# Altium integrated library TI Data Converters Analog to Digital Converter.IntLib: 2198 symbols (part 163 of 164)
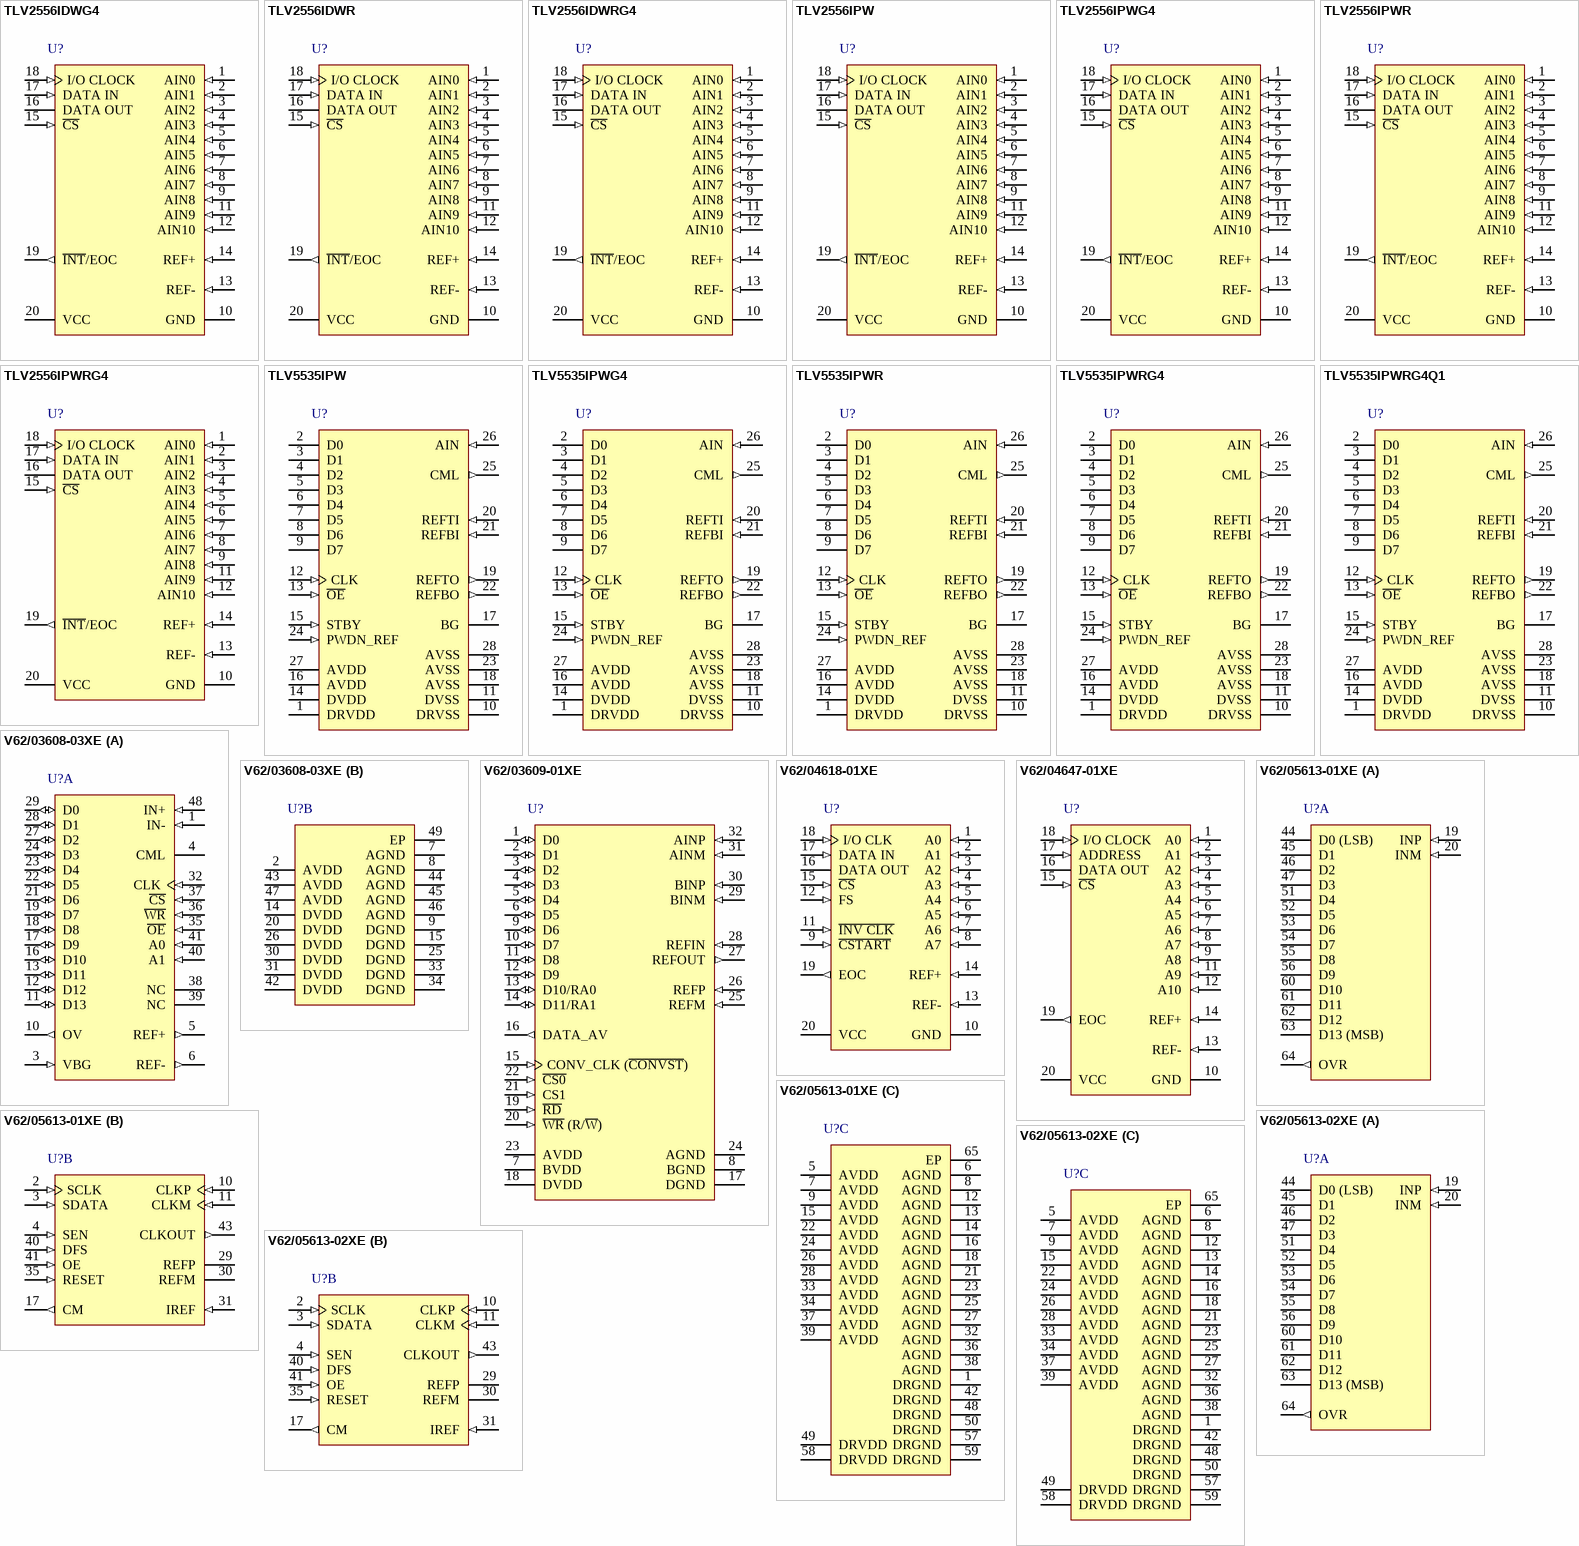
[diagram p288: symbols TLV2556IDWG4 to V62/05613-02XE]

## TLV5535IPWR
designator U?
8-Bit, 35 MSPS ADC Single Channel, Low Power, -40 to 85 degC, 28-pin SOP (PW28), Green (RoHS & no Sb/Br); Manufacturer: Texas Instruments; PartNumber: TLV5535IPWR; # Input Channels: 1; Analog Voltage AV/DD(Max)(V): 3.6; Analog Voltage AV/DD(Min)(V): 3; Architecture: Pipeline; ENOB(Bits): 7.4; INL(Max)(+/-LSB): 2.4; Interface: Parallel CMOS; Resolution(Bits): 8; Sample Rate (max)(SPS): 35M; SFDR(dB): 58; SINAD(dB): 46; SubFamily: High Speed ADC (>10MSPS); DatasheetVersion: SLAS221; PackageVersion: 4040064-7/G, 02/2011; PackageReference: PW28; PackageDescription: 28-Pin Plastic Small Outline, Body 9.7 x 4.4 mm, Pitch 0.65 mm; Supplier 1: Digi-Key; Supplier Part Number 1: 296-34813-2-ND; Digital Supply(Max)(V): 3.6; Digital Supply(Min)(V): 3; Eco-Plan: Green (RoHS & no Sb/Br); Mounting Technology: Surface Mount; Code_JEDEC: MO-153; ComponentLink1Description: Manufacturer URL; ComponentLink1URL: http://www.ti.com/; ComponentLink2Description: Datasheet; ComponentLink2URL: http://www.ti.com/general/docs/lit/getliterature.tsp?genericPartNumber=TLV5535&fileType=pdf; ComponentLink3Description: Package Specification; ComponentLink3URL: http://www.ti.com/litv/pdf/mpds364
footprint TI-PW28_N (SOP, 28-Leads, Body 9.7x4.4mm, Pitch 0.65mm, IPC Medium Density)
footprint TI-PW28_L (SOP, 28-Leads, Body 9.7x4.4mm, Pitch 0.65mm, IPC High Density)
footprint TI-PW28_M (SOP, 28-Leads, Body 9.7x4.4mm, Pitch 0.65mm, IPC Low Density)
pins: 1 DRVDD (power) "Supply voltage for digital output drivers", 2 D0 (hiz) "Data outputs.", 3 D1 (hiz) "Data outputs.", 4 D2 (hiz) "Data outputs.", 5 D3 (hiz) "Data outputs.", 6 D4 (hiz) "Data outputs.", 7 D5 (hiz) "Data outputs.", 8 D6 (hiz) "Data outputs.", 9 D7 (hiz) "Data outputs. D7 is the MSB.", 10 DRVSS (power) "Ground for digital output drivers", 11 DVSS (power) "Digital ground", 12 CLK (in) "Clock input. The input is sampled on each rising edge of CLK.", 13 ~{OE} (in) "Output enable. When high, the D0 - D7 outputs go in high-impedance mode.", 14 DVDD (power) "Digital supply voltage", 15 STBY (in) "Standby input. A high level on this input enables power-down mode.", 16 AVDD (power) "Analog supply voltage", 17 BG "Band gap reference voltage. A 1-uF capacitor (with an optional 0.1-uF capacitor in parallel) should be connected between this terminal and AVSS for external filtering.", 18 AVSS (power) "Analog ground", 19 REFTO (out) "Reference voltage top output. An internally generated reference is available at this terminal. It can be connected to REFTI or left unconnected. A 1-uF capacitor between REFTO and AVSS provides sufficient decoupling required (See Datasheet)", 20 REFTI (in) "Reference voltage top input. The voltage at this terminal defines the top reference voltage for the ADC.It can be connected to REFTO or to an externally generated reference level. Sufficient filtering should be applied to (See Datasheet)", 21 REFBI (in) "Reference voltage bottom input. The voltage at this terminal defines the bottom reference voltage for the ADC. It can be connected to REFBO or to an externally generated reference level. Sufficient filtering should be (See Datasheet)", 22 REFBO (out) "Reference voltage bottom output. An internally generated reference is available at this terminal. It can be connected to REFBI or left unconnected. A 1-uF capacitor between REFBO and AVSS provides sufficient decoupling (See Datasheet)", 23 AVSS (power) "Analog ground", 24 PWDN_REF (in) "Power down for internal reference voltages. A high on this terminal disables the internal reference circuit.", 25 CML (out) "Common mode level. This voltage is equal to (AVDD - AVSS) / 2. An external 0.1-uF capacitor should be connected between this terminal and AVSS.", 26 AIN (in) "Analog input", 27 AVDD (power) "Analog supply voltage", 28 AVSS (power) "Analog ground"

## TLV5535IPWRG4
designator U?
8-Bit, 35 MSPS ADC Single Channel, Low Power, -40 to 85 degC, 28-pin SOP (PW28), Green (RoHS & no Sb/Br); Manufacturer: Texas Instruments; PartNumber: TLV5535IPWRG4; # Input Channels: 1; Analog Voltage AV/DD(Max)(V): 3.6; Analog Voltage AV/DD(Min)(V): 3; Architecture: Pipeline; ENOB(Bits): 7.4; INL(Max)(+/-LSB): 2.4; Interface: Parallel CMOS; Resolution(Bits): 8; Sample Rate (max)(SPS): 35M; SFDR(dB): 58; SINAD(dB): 46; SubFamily: High Speed ADC (>10MSPS); DatasheetVersion: SLAS221; PackageVersion: 4040064-7/G, 02/2011; PackageReference: PW28; PackageDescription: 28-Pin Plastic Small Outline, Body 9.7 x 4.4 mm, Pitch 0.65 mm; Supplier 1: Digi-Key; Supplier Part Number 1: ADS131E04IPAG-ND; Digital Supply(Max)(V): 3.6; Digital Supply(Min)(V): 3; Eco-Plan: Green (RoHS & no Sb/Br); Mounting Technology: Surface Mount; Code_JEDEC: MO-153; ComponentLink1Description: Manufacturer URL; ComponentLink1URL: http://www.ti.com/; ComponentLink2Description: Datasheet; ComponentLink2URL: http://www.ti.com/general/docs/lit/getliterature.tsp?genericPartNumber=TLV5535&fileType=pdf; ComponentLink3Description: Package Specification; ComponentLink3URL: http://www.ti.com/litv/pdf/mpds364
footprint TI-PW28_N (SOP, 28-Leads, Body 9.7x4.4mm, Pitch 0.65mm, IPC Medium Density)
footprint TI-PW28_L (SOP, 28-Leads, Body 9.7x4.4mm, Pitch 0.65mm, IPC High Density)
footprint TI-PW28_M (SOP, 28-Leads, Body 9.7x4.4mm, Pitch 0.65mm, IPC Low Density)
pins: 1 DRVDD (power) "Supply voltage for digital output drivers", 2 D0 (hiz) "Data outputs.", 3 D1 (hiz) "Data outputs.", 4 D2 (hiz) "Data outputs.", 5 D3 (hiz) "Data outputs.", 6 D4 (hiz) "Data outputs.", 7 D5 (hiz) "Data outputs.", 8 D6 (hiz) "Data outputs.", 9 D7 (hiz) "Data outputs. D7 is the MSB.", 10 DRVSS (power) "Ground for digital output drivers", 11 DVSS (power) "Digital ground", 12 CLK (in) "Clock input. The input is sampled on each rising edge of CLK.", 13 ~{OE} (in) "Output enable. When high, the D0 - D7 outputs go in high-impedance mode.", 14 DVDD (power) "Digital supply voltage", 15 STBY (in) "Standby input. A high level on this input enables power-down mode.", 16 AVDD (power) "Analog supply voltage", 17 BG "Band gap reference voltage. A 1-uF capacitor (with an optional 0.1-uF capacitor in parallel) should be connected between this terminal and AVSS for external filtering.", 18 AVSS (power) "Analog ground", 19 REFTO (out) "Reference voltage top output. An internally generated reference is available at this terminal. It can be connected to REFTI or left unconnected. A 1-uF capacitor between REFTO and AVSS provides sufficient decoupling required (See Datasheet)", 20 REFTI (in) "Reference voltage top input. The voltage at this terminal defines the top reference voltage for the ADC.It can be connected to REFTO or to an externally generated reference level. Sufficient filtering should be applied to (See Datasheet)", 21 REFBI (in) "Reference voltage bottom input. The voltage at this terminal defines the bottom reference voltage for the ADC. It can be connected to REFBO or to an externally generated reference level. Sufficient filtering should be (See Datasheet)", 22 REFBO (out) "Reference voltage bottom output. An internally generated reference is available at this terminal. It can be connected to REFBI or left unconnected. A 1-uF capacitor between REFBO and AVSS provides sufficient decoupling (See Datasheet)", 23 AVSS (power) "Analog ground", 24 PWDN_REF (in) "Power down for internal reference voltages. A high on this terminal disables the internal reference circuit.", 25 CML (out) "Common mode level. This voltage is equal to (AVDD - AVSS) / 2. An external 0.1-uF capacitor should be connected between this terminal and AVSS.", 26 AIN (in) "Analog input", 27 AVDD (power) "Analog supply voltage", 28 AVSS (power) "Analog ground"

## TLV5535IPWRG4Q1
designator U?
Automotive Catalog 8-Bit, 35 MSPS Single Channel ADC, Low Power, -40 to 85 degC, 28-pin SOP (PW28), Green (RoHS & no Sb/Br); Manufacturer: Texas Instruments; PartNumber: TLV5535IPWRG4Q1; # Input Channels: 1; Analog Voltage AV/DD(Max)(V): 3.6; Analog Voltage AV/DD(Min)(V): 3; Architecture: Pipeline; ENOB(Bits): 7.4; INL(Max)(+/-LSB): 2.4; Resolution(Bits): 8; Sample Rate (max)(SPS): 35M; SFDR(dB): 58; SINAD(dB): 46; SubFamily: High Speed ADC (>10MSPS); DatasheetVersion: SGLS230A; PackageVersion: 4040064-7/G, 02/2011; PackageReference: PW28; PackageDescription: 28-Pin Plastic Small Outline, Body 9.7 x 4.4 mm, Pitch 0.65 mm; Supplier 1: Digi-Key; Supplier Part Number 1: ADC121S101QIMFX/NOPB-ND; Digital Supply(Max)(V): 3.6; Digital Supply(Min)(V): 3; Eco-Plan: Green (RoHS & no Sb/Br); Mounting Technology: Surface Mount; Code_JEDEC: MO-153; ComponentLink1Description: Manufacturer URL; ComponentLink1URL: http://www.ti.com/; ComponentLink2Description: Datasheet; ComponentLink2URL: http://www.ti.com/general/docs/lit/getliterature.tsp?genericPartNumber=TLV5535-Q1&fileType=pdf; ComponentLink3Description: Package Specification; ComponentLink3URL: http://www.ti.com/litv/pdf/mpds364
footprint TI-PW28_N (SOP, 28-Leads, Body 9.7x4.4mm, Pitch 0.65mm, IPC Medium Density)
footprint TI-PW28_L (SOP, 28-Leads, Body 9.7x4.4mm, Pitch 0.65mm, IPC High Density)
footprint TI-PW28_M (SOP, 28-Leads, Body 9.7x4.4mm, Pitch 0.65mm, IPC Low Density)
pins: 1 DRVDD (power) "Supply voltage for digital output drivers", 2 D0 (hiz) "Data outputs.", 3 D1 (hiz) "Data outputs.", 4 D2 (hiz) "Data outputs.", 5 D3 (hiz) "Data outputs.", 6 D4 (hiz) "Data outputs.", 7 D5 (hiz) "Data outputs.", 8 D6 (hiz) "Data outputs.", 9 D7 (hiz) "Data outputs. D7 is the MSB.", 10 DRVSS (power) "Ground for digital output drivers", 11 DVSS (power) "Digital ground", 12 CLK (in) "Clock input. The input is sampled on each rising edge of CLK.", 13 ~{OE} (in) "Output enable. When high, the D0 - D7 outputs go in high-impedance mode.", 14 DVDD (power) "Digital supply voltage", 15 STBY (in) "Standby input. A high level on this input enables power-down mode.", 16 AVDD (power) "Analog supply voltage", 17 BG "Band gap reference voltage. A 1-uF capacitor (with an optional 0.1-uF capacitor in parallel) should be connected between this terminal and AVSS for external filtering.", 18 AVSS (power) "Analog ground", 19 REFTO (out) "Reference voltage top output. An internally generated reference is available at this terminal. It can be connected to REFTI or left unconnected. A 1-uF capacitor between REFTO and AVSS provides sufficient decoupling required (See Datasheet)", 20 REFTI (in) "Reference voltage top input. The voltage at this terminal defines the top reference voltage for the ADC.It can be connected to REFTO or to an externally generated reference level. Sufficient filtering should be applied to (See Datasheet)", 21 REFBI (in) "Reference voltage bottom input. The voltage at this terminal defines the bottom reference voltage for the ADC. It can be connected to REFBO or to an externally generated reference level. Sufficient filtering should be (See Datasheet)", 22 REFBO (out) "Reference voltage bottom output. An internally generated reference is available at this terminal. It can be connected to REFBI or left unconnected. A 1-uF capacitor between REFBO and AVSS provides sufficient decoupling (See Datasheet)", 23 AVSS (power) "Analog ground", 24 PWDN_REF (in) "Power down for internal reference voltages. A high on this terminal disables the internal reference circuit.", 25 CML (out) "Common mode level. This voltage is equal to (AVDD - AVSS) / 2. An external 0.1-uF capacitor should be connected between this terminal and AVSS.", 26 AIN (in) "Analog input", 27 AVDD (power) "Analog supply voltage", 28 AVSS (power) "Analog ground"

## V62/03608-03XE
designator U?
Enhanced Product 14-Bit, 8 MSPS ADC Single Channel, Differential Input, DSP / uP Interface, Programmable Gain Amplifier, -55 to 125 degC, 48-pin QFP (PHP48), Green (RoHS & no Sb/Br); Manufacturer: Texas Instruments; PartNumber: V62/03608-03XE; # Input Channels: 1; Analog Voltage AV/DD(Max)(V): 3.6; Analog Voltage AV/DD(Min)(V): 3; Architecture: Pipeline; ENOB(Bits): 11.5; INL(Max)(+/-LSB): 10.5; Interface: Parallel CMOS; Resolution(Bits): 14; Sample Rate (max)(SPS): 8M; SFDR(dB): 80; SINAD(dB): 70; SNR(dB): 72; SubFamily: Precision ADC (<=10MSPS); DatasheetVersion: SGLS129B; PackageVersion: 4146927/B, 08/2003; PackageReference: PHP48-4385X4385TP; PackageDescription: 48-Pin PowerPAD(TM) Plastic Quad Flatpack, Body 7 x 7 mm, Pitch 0.5 mm; Supplier 1: Digi-Key; Supplier Part Number 1: 296-35612-2-ND; Digital Supply(Max)(V): 3.6; Digital Supply(Min)(V): 3; Eco-Plan: Green (RoHS & no Sb/Br); Mounting Technology: Surface Mount; Code_JEDEC: MS-026; ComponentLink1Description: Manufacturer URL; ComponentLink1URL: http://www.ti.com/; ComponentLink2Description: Datasheet; ComponentLink2URL: http://www.ti.com/general/docs/lit/getliterature.tsp?genericPartNumber=THS1408-EP&fileType=pdf; ComponentLink3Description: Package Specification; ComponentLink3URL: http://www.ti.com/litv/pdf/mpdi001b
footprint TI-PHP48-4385X4385TP_N (QFP, 48-Leads, Body 7x7mm, Pitch 0.5mm, Thermal Pad 4.9x4.9mm, IPC Medium Density)
footprint TI-PHP48-4385X4385TP_L (QFP, 48-Leads, Body 7x7mm, Pitch 0.5mm, Thermal Pad 4.9x4.9mm, IPC High Density)
footprint TI-PHP48-4385X4385TP_M (QFP, 48-Leads, Body 7x7mm, Pitch 0.5mm, Thermal Pad 4.9x4.9mm, IPC Low Density)
part A pins: 1 IN- (in) "Negative differential analog input", 3 VBG (in) "Reference input. This pin requires a 1-uF capacitor to AGND.", 4 CML "Reference midpoint. This pin requires a 0.1-uF capacitor to AGND.", 5 REF+ (out) "Positive reference output. This pin requires a 0.1-uF capacitor to AGND.", 6 REF- (out) "Negative reference output. This pin requires a 0.1-uF capacitor to AGND.", 10 OV (out) "Out of range output", 11 D13 (io) "Data inputs/outputs", 12 D12 (io) "Data inputs/outputs", 13 D11 (io) "Data inputs/outputs", 16 D10 (io) "Data inputs/outputs", 17 D9 (io) "Data inputs/outputs", 18 D8 (io) "Data inputs/outputs", 19 D7 (io) "Data inputs/outputs", 21 D6 (io) "Data inputs/outputs", 22 D5 (io) "Data inputs/outputs", 23 D4 (io) "Data inputs/outputs", 24 D3 (io) "Data inputs/outputs", 27 D2 (io) "Data inputs/outputs", 28 D1 (io) "Data inputs/outputs", 29 D0 (io) "Data inputs/outputs", 32 CLK (in) "Clock input", 35 ~{OE} (in) "Output enable. Active low", 36 ~{WR} (in) "Write signal. Active low", 37 ~{CS} (in) "Chip select input. Active low", 38 NC "No connection; do not use. Reserved.", 39 NC "No connection; do not use. Reserved.", 40 A1 (in) "Address input", 41 A0 (in) "Address input", 48 IN+ (in) "Positive differential analog input"
part B pins: 2 AVDD (power) "Analog power supply", 7 AGND (power) "Analog ground", 8 AGND (power) "Analog ground", 9 DGND (power) "Digital ground", 14 DVDD (power) "Digital power supply", 15 DGND (power) "Digital ground", 20 DVDD (power) "Digital power supply", 25 DGND (power) "Digital ground", 26 DVDD (power) "Digital power supply", 30 DVDD (power) "Digital power supply", 31 DVDD (power) "Digital power supply", 33 DGND (power) "Digital ground", 34 DGND (power) "Digital ground", 42 DVDD (power) "Digital power supply", 43 AVDD (power) "Analog power supply", 44 AGND (power) "Analog ground", 45 AGND (power) "Analog ground", 46 AGND (power) "Analog ground", 47 AVDD (power) "Analog power supply", 49 EP

## V62/03609-01XE
designator U?
Enhanced Product 12-Bit, 6 MSPS ADC Quad Channel, DSP / uP Interface, 16 x FIFO, -55 to 125 degC, 32-pin SOP (DA32), Green (RoHS & no Sb/Br); Manufacturer: Texas Instruments; PartNumber: V62/03609-01XE; # Input Channels: 4; Analog Voltage AV/DD(Max)(V): 5.25; Analog Voltage AV/DD(Min)(V): 4.75; Architecture: Pipeline; Digital Supply(Min)(V): 3; ENOB(Bits): 11; INL(Max)(+/-LSB): 1.8; Interface: Parallel CMOS; Resolution(Bits): 12; Sample Rate (max)(SPS): 6M; SFDR(dB): 71; SINAD(dB): 65; SNR(dB): 69; SubFamily: Precision ADC (<=10MSPS); DatasheetVersion: SGLS126A; PackageVersion: 4040066/F, 01/2009; PackageReference: DA32; PackageDescription: 32-Pin Plastic Small Outline, Body 11 x 6.1 mm, Pitch 0.65 mm; Supplier 1: Digi-Key; Supplier Part Number 1: ADC10040QCIMT/NOPB-ND; Digital Supply(Max)(V): 5.25; Eco-Plan: Green (RoHS & no Sb/Br); Mounting Technology: Surface Mount; Code_JEDEC: MO-225; ComponentLink1Description: Manufacturer URL; ComponentLink1URL: http://www.ti.com/; ComponentLink2Description: Datasheet; ComponentLink2URL: http://www.ti.com/general/docs/lit/getliterature.tsp?genericPartNumber=THS1206-EP&fileType=pdf; ComponentLink3Description: Package Specification; ComponentLink3URL: http://www.ti.com/lit/ml/mtss002e/mtss002e.pdf
footprint TI-DA32_N (SOP, 32-Leads, Body 11x6.1mm, Pitch 0.65mm, IPC Medium Density)
footprint TI-DA32_L (SOP, 32-Leads, Body 11x6.1mm, Pitch 0.65mm, IPC High Density)
footprint TI-DA32_M (SOP, 32-Leads, Body 11x6.1mm, Pitch 0.65mm, IPC Low Density)
pins: 1 D0 (io) "Digital input, output; D0 = LSB", 2 D1 (io) "Digital input, output; D0 = LSB", 3 D2 (io) "Digital input, output; D0 = LSB", 4 D3 (io) "Digital input, output; D0 = LSB", 5 D4 (io) "Digital input, output; D0 = LSB", 6 D5 (io) "Digital input, output; D0 = LSB", 7 BVDD (power) "Digital supply voltage for buffer", 8 BGND (power) "Digital ground for buffer", 9 D6 (io) "Digital input, output; D0 = LSB", 10 D7 (io) "Digital input, output; D0 = LSB", 11 D8 (io) "Digital input, output; D0 = LSB", 12 D9 (io) "Digital input, output; D0 = LSB", 13 D10/RA0 (io) "Digital input, output. The data line D10 is also used as an address line (RA0) for the control register. This is required for writing to control register 0 and control register 1. See Table 8.", 14 D11/RA1 (io) "Digital input, output (D11 = MSB). The data line D11 is also used as an address line (RA1) for the control register. This is required for writing to control register 0 and control register 1. See Table 8.", 15 CONV_CLK (~{CONVST}) (in) "Digital input. This input is used to apply an external conversion clock in the continuous conversion mode. In the single conversion mode, this input functions as the conversion start (C\O\N\V\S\T\) input. A high to low (See Datasheet)", 16 DATA_AV (out) "Data available signal, which can be used to generate an interrupt for processors and as a level information of the internal FIFO. This signal can be configured to be active low or high and can be configured as a static level (See Datasheet)", 17 DGND (power) "Digital ground. Ground reference for digital circuitry.", 18 DVDD (power) "Digital supply voltage", 19 ~{RD} (in) "The R\D\ input is used only if the W\R\ input is configured as a write only input. In this case, it is a digital input, active low as a data read select from the processor. See timing section.", 20 ~{WR} (R/~{W}) (in) "This input is programmable. It functions as a read-write input (R/W\) and can also be configured as a write-only input (W\R\), which is active low and used as data write select from the processor. In this case, the R\D\ (See Datasheet)", 21 CS1 (in) "Chip select input (active high)", 22 ~{CS0} (in) "Chip select input (active low)", 23 AVDD (power) "Analog supply voltage", 24 AGND (power) "Analog ground", 25 REFM (in) "Reference input, requires a bypass capacitor of 10 uF to AGND in order to bypass the internal reference voltage. An external reference voltage at this input can be applied. This option can be programmed through control (See Datasheet)", 26 REFP (in) "Reference input, requires a bypass capacitor of 10 uF to AGND in order to bypass the internal reference voltage. An external reference voltage at this input can be applied. This option can be programmed through control (See Datasheet)", 27 REFOUT (out) "Analog fixed reference output voltage of 2.5 V. Sink and source capability of 250 uA. The reference output requires a capacitor of 10 uF to AGND for filtering and stability.", 28 REFIN (in) "Common-mode reference input for the analog input channels. It is recommended that this pin be connected to the reference output REFOUT.", 29 BINM (in) "Analog input, single-ended or negative input of differential channel B", 30 BINP (in) "Analog input, single-ended or positive input of differential channel B", 31 AINM (in) "Analog input, single-ended or negative input of differential channel A", 32 AINP (in) "Analog input, single-ended or positive input of differential channel A"

## V62/04618-01XE
designator U?
Enhanced Product Low-Voltage 10-Bit ADC with Serial Control & 8 Analog Input, -40 to 125 degC, 20-pin SOP (DB20), Green (RoHS & no Sb/Br); Manufacturer: Texas Instruments; PartNumber: V62/04618-01XE; # Input Channels: 8; Analog Voltage AV/DD(Max)(V): 5.5; Analog Voltage AV/DD(Min)(V): 2.7; Architecture: SAR; INL(Max)(+/-LSB): 1; Interface: Serial SPI; Resolution(Bits): 10; Sample Rate (max)(SPS): 85k; SubFamily: Precision ADC (<=10MSPS); DatasheetVersion: SGLS171A; PackageVersion: 4040065/E, 12/2001; PackageReference: DB20; PackageDescription: 20-Pin Plastic Small Outline, Body 5.3 x 7.2 mm, Pitch 0.65 mm; Supplier 1: Digi-Key; Supplier Part Number 1: ADS1018IDGSR-ND; Digital Supply(Max)(V): 5.5; Digital Supply(Min)(V): 2.7; Eco-Plan: Green (RoHS & no Sb/Br); Mounting Technology: Surface Mount; Code_JEDEC: MO-150; ComponentLink1Description: Manufacturer URL; ComponentLink1URL: http://www.ti.com/; ComponentLink2Description: Datasheet; ComponentLink2URL: http://www.ti.com/general/docs/lit/getliterature.tsp?genericPartNumber=TLV1548-EP&fileType=pdf; ComponentLink3Description: Package Specification; ComponentLink3URL: http://www.ti.com/lit/ml/msso002e/msso002e.pdf
footprint TI-DB20_N (SOP, 20-Leads, Body 7.2x5.3mm, Pitch 0.65mm, IPC Medium Density)
footprint TI-DB20_L (SOP, 20-Leads, Body 7.2x5.3mm, Pitch 0.65mm, IPC High Density)
footprint TI-DB20_M (SOP, 20-Leads, Body 7.2x5.3mm, Pitch 0.65mm, IPC Low Density)
pins: 1 A0 (in) "Analog inputs. The analog inputs are internally multiplexed. (For a source impedance greater than 1k ohm, the asynchronous start should be used to increase the sampling time.)", 2 A1 (in) "Analog inputs. The analog inputs are internally multiplexed. (For a source impedance greater than 1k ohm, the asynchronous start should be used to increase the sampling time.)", 3 A2 (in) "Analog inputs. The analog inputs are internally multiplexed. (For a source impedance greater than 1k ohm, the asynchronous start should be used to increase the sampling time.)", 4 A3 (in) "Analog inputs. The analog inputs are internally multiplexed. (For a source impedance greater than 1k ohm, the asynchronous start should be used to increase the sampling time.)", 5 A4 (in) "Analog inputs. The analog inputs are internally multiplexed. (For a source impedance greater than 1k ohm, the asynchronous start should be used to increase the sampling time.)", 6 A5 (in) "Analog inputs. The analog inputs are internally multiplexed. (For a source impedance greater than 1k ohm, the asynchronous start should be used to increase the sampling time.)", 7 A6 (in) "Analog inputs. The analog inputs are internally multiplexed. (For a source impedance greater than 1k ohm, the asynchronous start should be used to increase the sampling time.)", 8 A7 (in) "Analog inputs. The analog inputs are internally multiplexed. (For a source impedance greater than 1k ohm, the asynchronous start should be used to increase the sampling time.)", 9 ~{CSTART} (in) "Sampling/conversion start control. C\S\T\A\R\T\ controls the start of the sampling of an analog input from a selected multiplex channel. A high-to-low transition starts the sampling of the analog input signal. A low-to-high (See Datasheet)", 10 GND (power) "Ground return for internal circuitry. All voltage measurements are with respect to GND, unless otherwise noted.", 11 ~{INV CLK} (in) "Inverted clock input. I\N\V\ \C\L\K\ is tied to GND when an inverted I/O CLK is used as the source of the input clock. This affects both microprocessor and DSP interfaces. I\N\V\ \C\L\K\ is tied to VCC if I/O CLK is not (See Datasheet)", 12 FS (in) "DSP frame synchronization input. FS indicates the start of a serial data frame into or out of the device. FS is tied to VCC when interfacing the device with a microprocessor.", 13 REF- (in) "Lower reference voltage (nominally ground)", 14 REF+ (in) "Upper reference voltage (nominally VCC ). The maximum input voltage range is determined by the difference between the voltages applied to REF+ and REF-.", 15 ~{CS} (in) "Chip select. A high-to-low transition on C\S\ resets the internal counters and controls and enables DATA IN, DATA OUT, and I/O CLK within the maximum setup time. A low-to-high transition disables DATA IN, DATA OUT, and I/O (See Datasheet)", 16 DATA OUT (hiz) "Three-state serial output of the A/D conversion result. DATA OUT is in the high-impedance state when C\S\ is high and active when C\S\ is low or after FS? (in DSP mode). With a valid C\S\ signal, DATA OUT is removed fro(See Datasheet)", 17 DATA IN (in) "Serial data input. The 4-bit serial data selects the desired analog input and test voltage to be converted next in a normal cycle. These bits can also set the conversion rate and enable the power-down mode. When operating in (See Datasheet)", 18 I/O CLK (in) "Input/output clock. I/O CLK receives the serial I/O clock input in the two modes and performs the following four functions in each mode", 19 EOC (out) "End of conversion. EOC goes from a high to a low logic level on the tenth rising (microprocessor mode) or tenth falling (DSP mode) edge of I/O CLK and remains low until the conversion is complete and data is ready for (See Datasheet)", 20 VCC (power) "Positive supply voltage"

## V62/04647-01XE
designator U?
Enhanced Product 10-Bit ADC with Serial Control & 11 Analog Inputs, -40 to 125 degC, 20-pin SOIC (DW20), Green (RoHS & no Sb/Br); Manufacturer: Texas Instruments; PartNumber: V62/04647-01XE; # Input Channels: 11; Analog Voltage AV/DD(Max)(V): 5.5; Analog Voltage AV/DD(Min)(V): 4.5; Architecture: SAR; INL(Max)(+/-LSB): 1; Interface: Serial SPI; Resolution(Bits): 10; Sample Rate (max)(SPS): 38k; SubFamily: Precision ADC (<=10MSPS); DatasheetVersion: SGLS152A; PackageVersion: 4040000-4/G, 01/2011; PackageReference: DW20; PackageDescription: 20-Pin Plastic Small Outline, Body 12.8 x 7.5 mm, Pitch 1.27 mm; Supplier 1: Digi-Key; Supplier Part Number 1: 296-34883-2-ND; Digital Supply(Max)(V): 5.5; Digital Supply(Min)(V): 4.5; Eco-Plan: Green (RoHS & no Sb/Br); Mounting Technology: Surface Mount; Code_JEDEC: MO-013; ComponentLink1Description: Manufacturer URL; ComponentLink1URL: http://www.ti.com/; ComponentLink2Description: Datasheet; ComponentLink2URL: http://www.ti.com/general/docs/lit/getliterature.tsp?genericPartNumber=TLC1543-EP&fileType=pdf; ComponentLink3Description: Package Specification; ComponentLink3URL: http://www.ti.com/lit/ml/mpds173a/mpds173a.pdf
footprint TI-DW20_N (SOIC, 20-Leads, Body 12.8x7.5mm, Pitch 1.27mm, IPC Medium Density)
footprint TI-DW20_L (SOIC, 20-Leads, Body 12.8x7.5mm, Pitch 1.27mm, IPC High Density)
footprint TI-DW20_M (SOIC, 20-Leads, Body 12.8x7.5mm, Pitch 1.27mm, IPC Low Density)
pins: 1 A0 (in) "Analog signal inputs. The 11 analog inputs are applied to these terminals and are internally multiplexed. The driving source impedance should be less than or equal to 1 kohm.", 2 A1 (in) "Analog signal inputs. The 11 analog inputs are applied to these terminals and are internally multiplexed. The driving source impedance should be less than or equal to 1 kohm.", 3 A2 (in) "Analog signal inputs. The 11 analog inputs are applied to these terminals and are internally multiplexed. The driving source impedance should be less than or equal to 1 kohm.", 4 A3 (in) "Analog signal inputs. The 11 analog inputs are applied to these terminals and are internally multiplexed. The driving source impedance should be less than or equal to 1 kohm.", 5 A4 (in) "Analog signal inputs. The 11 analog inputs are applied to these terminals and are internally multiplexed. The driving source impedance should be less than or equal to 1 kohm.", 6 A5 (in) "Analog signal inputs. The 11 analog inputs are applied to these terminals and are internally multiplexed. The driving source impedance should be less than or equal to 1 kohm.", 7 A6 (in) "Analog signal inputs. The 11 analog inputs are applied to these terminals and are internally multiplexed. The driving source impedance should be less than or equal to 1 kohm.", 8 A7 (in) "Analog signal inputs. The 11 analog inputs are applied to these terminals and are internally multiplexed. The driving source impedance should be less than or equal to 1 kohm.", 9 A8 (in) "Analog signal inputs. The 11 analog inputs are applied to these terminals and are internally multiplexed. The driving source impedance should be less than or equal to 1 kohm.", 10 GND (power) "The ground return terminal for the internal circuitry. Unless otherwise noted, all voltage measurements are with respect to this terminal.", 11 A9 (in) "Analog signal inputs. The 11 analog inputs are applied to these terminals and are internally multiplexed. The driving source impedance should be less than or equal to 1 kohm.", 12 A10 (in) "Analog signal inputs. The 11 analog inputs are applied to these terminals and are internally multiplexed. The driving source impedance should be less than or equal to 1 kohm.", 13 REF- (in) "The lower reference voltage value (nominally ground) is applied to this terminal.", 14 REF+ (in) "The upper reference voltage value (nominally VCC) is applied to this terminal. The maximum input voltage range is determined by the difference between the voltage applied to this terminal and the voltage applied to the REF- (See Datasheet)", 15 ~{CS} (in) "Chip select. A high-to-low transition on this input resets the internal counters and controls and enables DATA OUT, ADDRESS, and I/O CLOCK within a maximum of a setup time plus two falling edges of the internal system clock. (See Datasheet)", 16 DATA OUT (hiz) "The 3-state serial output for the A/D conversion result. This output is in the high-impedance state when C\S\ is high and active when C\S\ is low. With a valid chip select, DATA OUT is removed from the high-impedance state (See Datasheet)", 17 ADDRESS (in) "Serial address input. A 4-bit serial address selects the desired analog input or test voltage that is to be converted next. The address data is presented with the MSB first and shifts in on the first four rising edges of I/O (See Datasheet)", 18 I/O CLOCK (in) "Input/output clock. This terminal receives the serial I/O CLOCK input and performs the following four functions: 1) It clocks the four input address bits into the address register on the first four rising edges of the I/O (See Datasheet)", 19 EOC (out) "End of conversion. This output goes from a high to a low logic level on the trailing edge of the tenth I/O CLOCK and remains low until the conversion is complete and data are ready for transfer.", 20 VCC (power) "Positive supply voltage"

## V62/05613-01XE
designator U?
Enhanced Product 14-Bit 125 MSPS ADC, -55 to 125 degC, 64-pin QFP (PAP64), Green (RoHS & no Sb/Br); Manufacturer: Texas Instruments; PartNumber: V62/05613-01XE; # Input Channels: 1; Analog Voltage AV/DD(Max)(V): 3.6; Analog Voltage AV/DD(Min)(V): 3; Architecture: Pipeline; ENOB(Bits): 11.3; INL(Max)(+/-LSB): 8; Interface: Parallel CMOS,Serial SPI Interface; Resolution(Bits): 14; Sample Rate (max)(SPS): 125M; SFDR(dB): 84; SINAD(dB): 70; SNR(dB): 71.5; SubFamily: High Speed ADC (>10MSPS); DatasheetVersion: SGLS286C; PackageVersion: 4147702/C, 08/2003; PackageReference: PAP64-4130X4130TP; PackageDescription: 64-Pin PowerPAD(TM) Plastic Quad Flatpack, Body 10 x 10 mm, Pitch 0.5 mm; Supplier 1: Mouser; Supplier Part Number 1: 926-ADC12081CIVT; Digital Supply(Max)(V): 3.6; Digital Supply(Min)(V): 3; Eco-Plan: Green (RoHS & no Sb/Br); Mounting Technology: Surface Mount; Code_JEDEC: MS-026; ComponentLink1Description: Manufacturer URL; ComponentLink1URL: http://www.ti.com/; ComponentLink2Description: Datasheet; ComponentLink2URL: http://www.ti.com/general/docs/lit/getliterature.tsp?genericPartNumber=ADS5500-EP&fileType=pdf; ComponentLink3Description: Package Specification; ComponentLink3URL: http://www.ti.com/lit/ml/mpqf071b/mpqf071b.pdf
footprint TI-PAP64-4130X4130TP_N (QFP, 64-Leads, Body 10x10mm, Pitch 0.5mm, Thermal Pad 4.15x4.15mm, IPC Medium Density)
footprint TI-PAP64-4130X4130TP_L (QFP, 64-Leads, Body 10x10mm, Pitch 0.5mm, Thermal Pad 4.15x4.15mm, IPC High Density)
footprint TI-PAP64-4130X4130TP_M (QFP, 64-Leads, Body 10x10mm, Pitch 0.5mm, Thermal Pad 4.15x4.15mm, IPC Low Density)
part A pins: 19 INP (in) "Differential analog input (positive)", 20 INM (in) "Differential analog input (negative)", 44 D0 (LSB) (hiz) "Parallel data output", 45 D1 (hiz) "Parallel data output", 46 D2 (hiz) "Parallel data output", 47 D3 (hiz) "Parallel data output", 51 D4 (hiz) "Parallel data output", 52 D5 (hiz) "Parallel data output", 53 D6 (hiz) "Parallel data output", 54 D7 (hiz) "Parallel data output", 55 D8 (hiz) "Parallel data output", 56 D9 (hiz) "Parallel data output", 60 D10 (hiz) "Parallel data output", 61 D11 (hiz) "Parallel data output", 62 D12 (hiz) "Parallel data output", 63 D13 (MSB) (hiz) "Parallel data output", 64 OVR (out) "Over-range indicator bit"
part B pins: 2 SCLK (in) "Serial interface clock", 3 SDATA (in) "Serial interface data", 4 SEN (in) "Serial interface chip select", 10 CLKP (in) "Data converter differential input clock (positive)", 11 CLKM (in) "Data converter differential input clock (negative)", 17 CM (out) "Common-mode output voltage", 29 REFP "Reference voltage (positive); 1-uF capacitor in series with a 1-ohm resistor to GND", 30 REFM "Reference voltage (negative); 1-uF capacitor in series with a 1-ohm resistor to GND", 31 IREF (in) "Current set; 56-kohm resistor to GND; do not connect capacitors", 35 RESET (in) "Reset (active high), 200-kohm resistor to AVDD", 40 DFS (in) "Data format and clock out polarity select", 41 OE (in) "Output enable (active high)", 43 CLKOUT (out) "CMOS clock out in sync with data"
part C pins: 1 DRGND (power) "Output driver ground", 5 AVDD (power) "Analog power supply", 6 AGND (power) "Analog ground", 7 AVDD (power) "Analog power supply", 8 AGND (power) "Analog ground", 9 AVDD (power) "Analog power supply", 12 AGND (power) "Analog ground", 13 AGND (power) "Analog ground", 14 AGND (power) "Analog ground", 15 AVDD (power) "Analog power supply", 16 AGND (power) "Analog ground", 18 AGND (power) "Analog ground", 21 AGND (power) "Analog ground", 22 AVDD (power) "Analog power supply", 23 AGND (power) "Analog ground", 24 AVDD (power) "Analog power supply", 25 AGND (power) "Analog ground", 26 AVDD (power) "Analog power supply", 27 AGND (power) "Analog ground", 28 AVDD (power) "Analog power supply", 32 AGND (power) "Analog ground", 33 AVDD (power) "Analog power supply", 34 AVDD (power) "Analog power supply", 36 AGND (power) "Analog ground", 37 AVDD (power) "Analog power supply", 38 AGND (power) "Analog ground", 39 AVDD (power) "Analog power supply", 42 DRGND (power) "Output driver ground", 48 DRGND (power) "Output driver ground", 49 DRVDD (power) "Output driver power supply", 50 DRGND (power) "Output driver ground", 57 DRGND (power) "Output driver ground", 58 DRVDD (power) "Output driver power supply", 59 DRGND (power) "Output driver ground", 65 EP (power) "Connected to Analog Ground"

## V62/05613-02XE
designator U?
Enhanced Product 14-Bit 125 MSPS ADC, -55 to 125 degC, 64-pin QFP (PAP64), Green (RoHS & no Sb/Br); Manufacturer: Texas Instruments; PartNumber: V62/05613-02XE; # Input Channels: 1; Analog Voltage AV/DD(Max)(V): 3.6; Analog Voltage AV/DD(Min)(V): 3; Architecture: Pipeline; ENOB(Bits): 11.3; INL(Max)(+/-LSB): 8; Interface: Parallel CMOS,Serial SPI Interface; Resolution(Bits): 14; Sample Rate (max)(SPS): 125M; SFDR(dB): 84; SINAD(dB): 70; SNR(dB): 71.5; SubFamily: High Speed ADC (>10MSPS); DatasheetVersion: SGLS286C; PackageVersion: 4147702/C, 08/2003; PackageReference: PAP64-4130X4130TP; PackageDescription: 64-Pin PowerPAD(TM) Plastic Quad Flatpack, Body 10 x 10 mm, Pitch 0.5 mm; Digital Supply(Max)(V): 3.6; Digital Supply(Min)(V): 3; Eco-Plan: Green (RoHS & no Sb/Br); Mounting Technology: Surface Mount; Code_JEDEC: MS-026; ComponentLink1Description: Manufacturer URL; ComponentLink1URL: http://www.ti.com/; ComponentLink2Description: Datasheet; ComponentLink2URL: http://www.ti.com/general/docs/lit/getliterature.tsp?genericPartNumber=ADS5500-EP&fileType=pdf; ComponentLink3Description: Package Specification; ComponentLink3URL: http://www.ti.com/lit/ml/mpqf071b/mpqf071b.pdf
footprint TI-PAP64-4130X4130TP_N (QFP, 64-Leads, Body 10x10mm, Pitch 0.5mm, Thermal Pad 4.15x4.15mm, IPC Medium Density)
footprint TI-PAP64-4130X4130TP_L (QFP, 64-Leads, Body 10x10mm, Pitch 0.5mm, Thermal Pad 4.15x4.15mm, IPC High Density)
footprint TI-PAP64-4130X4130TP_M (QFP, 64-Leads, Body 10x10mm, Pitch 0.5mm, Thermal Pad 4.15x4.15mm, IPC Low Density)
part A pins: 19 INP (in) "Differential analog input (positive)", 20 INM (in) "Differential analog input (negative)", 44 D0 (LSB) (hiz) "Parallel data output", 45 D1 (hiz) "Parallel data output", 46 D2 (hiz) "Parallel data output", 47 D3 (hiz) "Parallel data output", 51 D4 (hiz) "Parallel data output", 52 D5 (hiz) "Parallel data output", 53 D6 (hiz) "Parallel data output", 54 D7 (hiz) "Parallel data output", 55 D8 (hiz) "Parallel data output", 56 D9 (hiz) "Parallel data output", 60 D10 (hiz) "Parallel data output", 61 D11 (hiz) "Parallel data output", 62 D12 (hiz) "Parallel data output", 63 D13 (MSB) (hiz) "Parallel data output", 64 OVR (out) "Over-range indicator bit"
part B pins: 2 SCLK (in) "Serial interface clock", 3 SDATA (in) "Serial interface data", 4 SEN (in) "Serial interface chip select", 10 CLKP (in) "Data converter differential input clock (positive)", 11 CLKM (in) "Data converter differential input clock (negative)", 17 CM (out) "Common-mode output voltage", 29 REFP "Reference voltage (positive); 1-uF capacitor in series with a 1-ohm resistor to GND", 30 REFM "Reference voltage (negative); 1-uF capacitor in series with a 1-ohm resistor to GND", 31 IREF (in) "Current set; 56-kohm resistor to GND; do not connect capacitors", 35 RESET (in) "Reset (active high), 200-kohm resistor to AVDD", 40 DFS (in) "Data format and clock out polarity select", 41 OE (in) "Output enable (active high)", 43 CLKOUT (out) "CMOS clock out in sync with data"
part C pins: 1 DRGND (power) "Output driver ground", 5 AVDD (power) "Analog power supply", 6 AGND (power) "Analog ground", 7 AVDD (power) "Analog power supply", 8 AGND (power) "Analog ground", 9 AVDD (power) "Analog power supply", 12 AGND (power) "Analog ground", 13 AGND (power) "Analog ground", 14 AGND (power) "Analog ground", 15 AVDD (power) "Analog power supply", 16 AGND (power) "Analog ground", 18 AGND (power) "Analog ground", 21 AGND (power) "Analog ground", 22 AVDD (power) "Analog power supply", 23 AGND (power) "Analog ground", 24 AVDD (power) "Analog power supply", 25 AGND (power) "Analog ground", 26 AVDD (power) "Analog power supply", 27 AGND (power) "Analog ground", 28 AVDD (power) "Analog power supply", 32 AGND (power) "Analog ground", 33 AVDD (power) "Analog power supply", 34 AVDD (power) "Analog power supply", 36 AGND (power) "Analog ground", 37 AVDD (power) "Analog power supply", 38 AGND (power) "Analog ground", 39 AVDD (power) "Analog power supply", 42 DRGND (power) "Output driver ground", 48 DRGND (power) "Output driver ground", 49 DRVDD (power) "Output driver power supply", 50 DRGND (power) "Output driver ground", 57 DRGND (power) "Output driver ground", 58 DRVDD (power) "Output driver power supply", 59 DRGND (power) "Output driver ground", 65 EP (power) "Connected to Analog Ground"

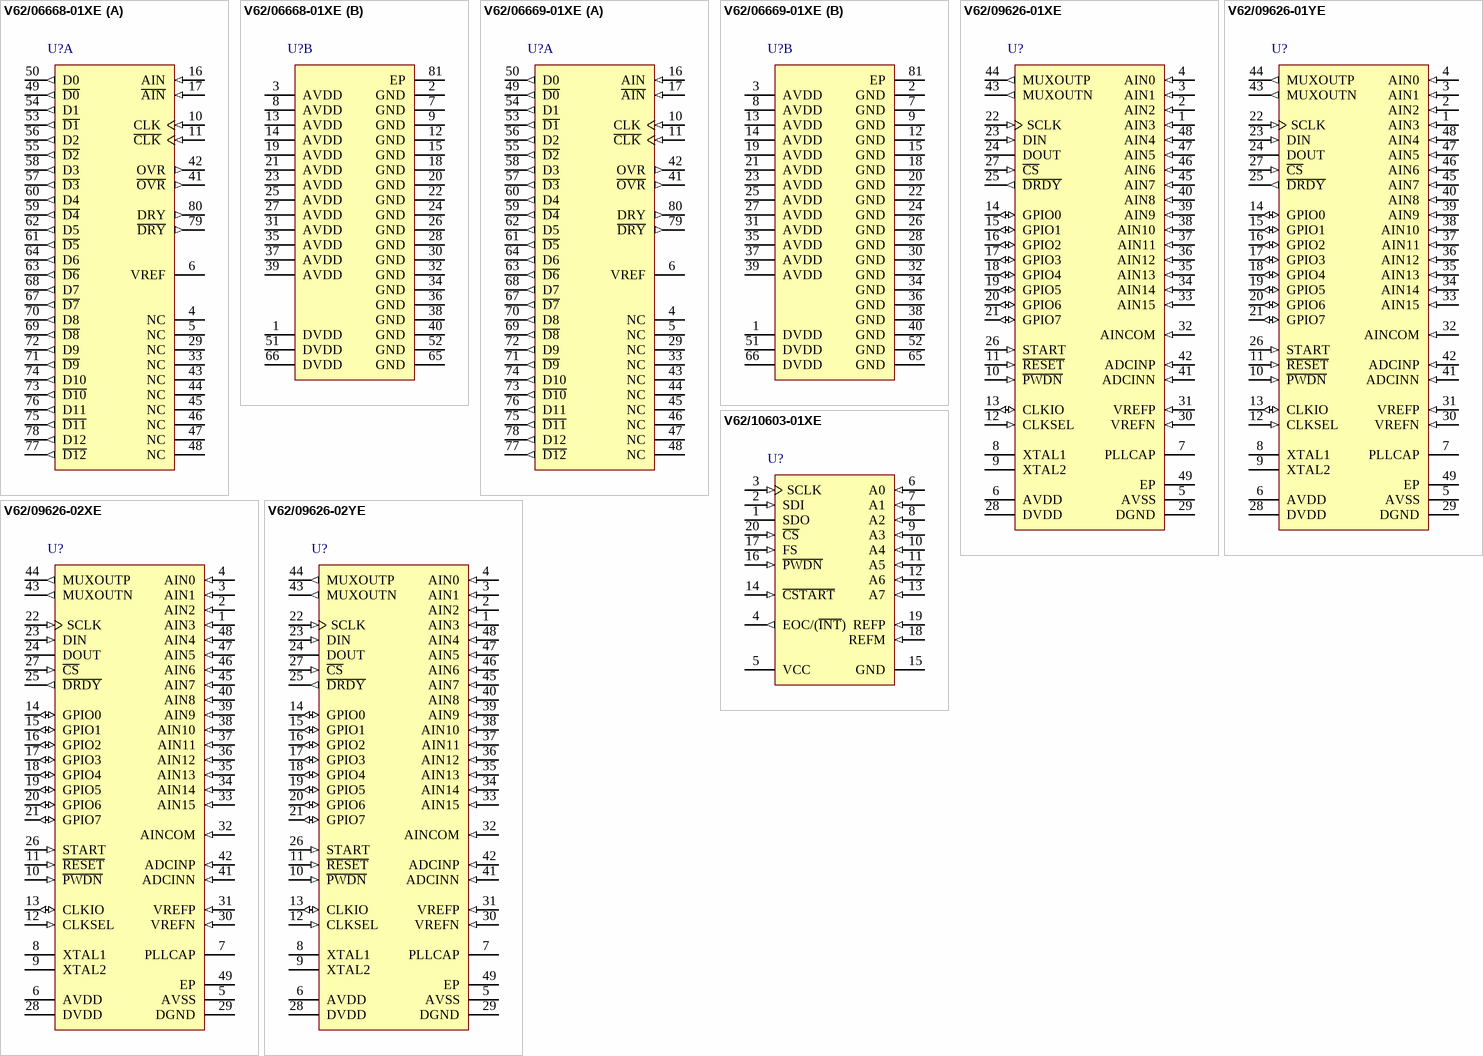
[diagram p126: symbols V62/06668-01XE to V62/10603-01XE]

## V62/06668-01XE
designator U?
Enhanced Product 13-Bit 250 MSPS ADC, -55 to 125 degC, 80-pin QFP (PFP80), Green (RoHS & no Sb/Br); Manufacturer: Texas Instruments; PartNumber: V62/06668-01XE; # Input Channels: 1; Analog Voltage AV/DD(Max)(V): 5.25; Analog Voltage AV/DD(Min)(V): 4.75; Architecture: Pipeline; Digital Supply(Max)(V): 3.6; Digital Supply(Min)(V): 3; ENOB(Bits): 11.2; INL(Max)(+/-LSB): 2.2; Interface: Parallel LVDS; Resolution(Bits): 13; Sample Rate (max)(SPS): 250M; SFDR(dB): 85; SINAD(dB): 69; SNR(dB): 69.3; SubFamily: High Speed ADC (>10MSPS); DatasheetVersion: SGLS360; PackageVersion: 4146925/C, 07/2011; PackageReference: PFP80-6825X6825TP; PackageDescription: 80-Pin PowerPAD(TM) Plastic Quad Flatpack, Body 12 x 12 mm, Pitch 0.5 mm; Supplier 1: Digi-Key; Supplier Part Number 1: ADS5407IZAY-ND; Eco-Plan: Green (RoHS & no Sb/Br); Mounting Technology: Surface Mount; Code_JEDEC: MS-026; ComponentLink1Description: Manufacturer URL; ComponentLink1URL: http://www.ti.com/; ComponentLink2Description: Datasheet; ComponentLink2URL: http://www.ti.com/general/docs/lit/getliterature.tsp?genericPartNumber=ADS5444-EP&fileType=pdf; ComponentLink3Description: Package Specification; ComponentLink3URL: http://www.ti.com/litv/pdf/mpqf049b
footprint TI-PFP80-6825X6825TP_N (QFP, 80-Leads, Body 12x12mm, Pitch 0.5mm, Thermal Pad 7.5x7.5mm, IPC Medium Density)
footprint TI-PFP80-6825X6825TP_L (QFP, 80-Leads, Body 12x12mm, Pitch 0.5mm, Thermal Pad 7.5x7.5mm, IPC High Density)
footprint TI-PFP80-6825X6825TP_M (QFP, 80-Leads, Body 12x12mm, Pitch 0.5mm, Thermal Pad 7.5x7.5mm, IPC Low Density)
part A pins: 4 NC "No connect", 5 NC "No connect", 6 VREF "Reference voltage", 10 CLK (in) "Differential input clock (positive). Conversion initiated on rising edge", 11 ~{CLK} (in) "Differential input clock (negative)", 16 AIN (in) "Differential input signal (positive)", 17 ~{AIN} (in) "Differential input signal (negative)", 29 NC "No connect", 33 NC "No connect", 41 ~{OVR} (out) "Over range indicator LVDS output. A logic high signals an analog input in excess of the full-scale range", 42 OVR (out) "Over range indicator LVDS output. A logic high signals an analog input in excess of the full-scale range", 43 NC "No connect", 44 NC "No connect", 45 NC "No connect", 46 NC "No connect", 47 NC "No connect", 48 NC "No connect", 49 ~{D0} (out) "LVDS digital output pair, least-significant bit (LSB)", 50 D0 (out) "LVDS digital output pair, least-significant bit (LSB)", 53 ~{D1} (out) "LVDS digital output pairs", 54 D1 (out) "LVDS digital output pairs", 55 ~{D2} (out) "LVDS digital output pairs", 56 D2 (out) "LVDS digital output pairs", 57 ~{D3} (out) "LVDS digital output pairs", 58 D3 (out) "LVDS digital output pairs", 59 ~{D4} (out) "LVDS digital output pairs", 60 D4 (out) "LVDS digital output pairs", 61 ~{D5} (out) "LVDS digital output pairs", 62 D5 (out) "LVDS digital output pairs", 63 ~{D6} (out) "LVDS digital output pairs", 64 D6 (out) "LVDS digital output pairs", 67 ~{D7} (out) "LVDS digital output pairs", 68 D7 (out) "LVDS digital output pairs", 69 ~{D8} (out) "LVDS digital output pairs", 70 D8 (out) "LVDS digital output pairs", 71 ~{D9} (out) "LVDS digital output pairs", 72 D9 (out) "LVDS digital output pairs", 73 ~{D10} (out) "LVDS digital output pairs", 74 D10 (out) "LVDS digital output pairs", 75 ~{D11} (out) "LVDS digital output pairs", 76 D11 (out) "LVDS digital output pairs", 77 ~{D12} (out) "LVDS digital output pair, most-significant bit (MSB)", 78 D12 (out) "LVDS digital output pair, most-significant bit (MSB)", 79 ~{DRY} (out) "Data ready LVDS output pair", 80 DRY (out) "Data ready LVDS output pair"
part B pins: 1 DVDD (power) "Output driver power supply", 2 GND (power) "Ground", 3 AVDD (power) "Analog power supply", 7 GND (power) "Ground", 8 AVDD (power) "Analog power supply", 9 GND (power) "Ground", 12 GND (power) "Ground", 13 AVDD (power) "Analog power supply", 14 AVDD (power) "Analog power supply", 15 GND (power) "Ground", 18 GND (power) "Ground", 19 AVDD (power) "Analog power supply", 20 GND (power) "Ground", 21 AVDD (power) "Analog power supply", 22 GND (power) "Ground", 23 AVDD (power) "Analog power supply", 24 GND (power) "Ground", 25 AVDD (power) "Analog power supply", 26 GND (power) "Ground", 27 AVDD (power) "Analog power supply", 28 GND (power) "Ground", 30 GND (power) "Ground", 31 AVDD (power) "Analog power supply", 32 GND (power) "Ground", 34 GND (power) "Ground", 35 AVDD (power) "Analog power supply", 36 GND (power) "Ground", 37 AVDD (power) "Analog power supply", 38 GND (power) "Ground", 39 AVDD (power) "Analog power supply", 40 GND (power) "Ground", 51 DVDD (power) "Output driver power supply", 52 GND (power) "Ground", 65 GND (power) "Ground", 66 DVDD (power) "Output driver power supply", 81 EP (power)

## V62/06669-01XE
designator U?
Enhanced Product 13-Bit 210 MSPS ADC, -55 to 125 degC, 80-pin QFP (PFP80), Green (RoHS & no Sb/Br); Manufacturer: Texas Instruments; PartNumber: V62/06669-01XE; # Input Channels: 1; Analog Voltage AV/DD(Max)(V): 5.25; Analog Voltage AV/DD(Min)(V): 4.75; Architecture: Pipeline; Digital Supply(Max)(V): 3.6; Digital Supply(Min)(V): 3; ENOB(Bits): 11.4; INL(Max)(+/-LSB): 2.2; Interface: Parallel LVDS; Resolution(Bits): 13; Sample Rate (max)(SPS): 210M; SFDR(dB): 84; SINAD(dB): 69.6; SNR(dB): 69.8; SubFamily: High Speed ADC (>10MSPS); DatasheetVersion: SGLS359; PackageVersion: 4146925/C, 07/2011; PackageReference: PFP80-6825X6825TP; PackageDescription: 80-Pin PowerPAD(TM) Plastic Quad Flatpack, Body 12 x 12 mm, Pitch 0.5 mm; Supplier 1: Digi-Key; Supplier Part Number 1: ADC121S101QIMF/NOPB-ND; Eco-Plan: Green (RoHS & no Sb/Br); Mounting Technology: Surface Mount; Code_JEDEC: MS-026; ComponentLink1Description: Manufacturer URL; ComponentLink1URL: http://www.ti.com/; ComponentLink2Description: Datasheet; ComponentLink2URL: http://www.ti.com/general/docs/lit/getliterature.tsp?genericPartNumber=ADS5440-EP&fileType=pdf; ComponentLink3Description: Package Specification; ComponentLink3URL: http://www.ti.com/litv/pdf/mpqf049b
footprint TI-PFP80-6825X6825TP_N (QFP, 80-Leads, Body 12x12mm, Pitch 0.5mm, Thermal Pad 7.5x7.5mm, IPC Medium Density)
footprint TI-PFP80-6825X6825TP_L (QFP, 80-Leads, Body 12x12mm, Pitch 0.5mm, Thermal Pad 7.5x7.5mm, IPC High Density)
footprint TI-PFP80-6825X6825TP_M (QFP, 80-Leads, Body 12x12mm, Pitch 0.5mm, Thermal Pad 7.5x7.5mm, IPC Low Density)
part A pins: 4 NC "No connect", 5 NC "No connect", 6 VREF "Reference voltage", 10 CLK (in) "Differential input clock (positive). Conversion initiated on rising edge", 11 ~{CLK} (in) "Differential input clock (negative)", 16 AIN (in) "Differential input signal (positive)", 17 ~{AIN} (in) "Differential input signal (negative)", 29 NC "No connect", 33 NC "No connect", 41 ~{OVR} (out) "Over range indicator LVDS output. A logic high signals an analog input in excess of the full-scale range", 42 OVR (out) "Over range indicator LVDS output. A logic high signals an analog input in excess of the full-scale range", 43 NC "No connect", 44 NC "No connect", 45 NC "No connect", 46 NC "No connect", 47 NC "No connect", 48 NC "No connect", 49 ~{D0} (out) "LVDS digital output pair, least-significant bit (LSB)", 50 D0 (out) "LVDS digital output pair, least-significant bit (LSB)", 53 ~{D1} (out) "LVDS digital output pairs", 54 D1 (out) "LVDS digital output pairs", 55 ~{D2} (out) "LVDS digital output pairs", 56 D2 (out) "LVDS digital output pairs", 57 ~{D3} (out) "LVDS digital output pairs", 58 D3 (out) "LVDS digital output pairs", 59 ~{D4} (out) "LVDS digital output pairs", 60 D4 (out) "LVDS digital output pairs", 61 ~{D5} (out) "LVDS digital output pairs", 62 D5 (out) "LVDS digital output pairs", 63 ~{D6} (out) "LVDS digital output pairs", 64 D6 (out) "LVDS digital output pairs", 67 ~{D7} (out) "LVDS digital output pairs", 68 D7 (out) "LVDS digital output pairs", 69 ~{D8} (out) "LVDS digital output pairs", 70 D8 (out) "LVDS digital output pairs", 71 ~{D9} (out) "LVDS digital output pairs", 72 D9 (out) "LVDS digital output pairs", 73 ~{D10} (out) "LVDS digital output pairs", 74 D10 (out) "LVDS digital output pairs", 75 ~{D11} (out) "LVDS digital output pairs", 76 D11 (out) "LVDS digital output pairs", 77 ~{D12} (out) "LVDS digital output pair, most-significant bit (MSB)", 78 D12 (out) "LVDS digital output pair, most-significant bit (MSB)", 79 ~{DRY} (out) "Data ready LVDS output pair", 80 DRY (out) "Data ready LVDS output pair"
part B pins: 1 DVDD (power) "Output driver power supply", 2 GND (power) "Ground", 3 AVDD (power) "Analog power supply", 7 GND (power) "Ground", 8 AVDD (power) "Analog power supply", 9 GND (power) "Ground", 12 GND (power) "Ground", 13 AVDD (power) "Analog power supply", 14 AVDD (power) "Analog power supply", 15 GND (power) "Ground", 18 GND (power) "Ground", 19 AVDD (power) "Analog power supply", 20 GND (power) "Ground", 21 AVDD (power) "Analog power supply", 22 GND (power) "Ground", 23 AVDD (power) "Analog power supply", 24 GND (power) "Ground", 25 AVDD (power) "Analog power supply", 26 GND (power) "Ground", 27 AVDD (power) "Analog power supply", 28 GND (power) "Ground", 30 GND (power) "Ground", 31 AVDD (power) "Analog power supply", 32 GND (power) "Ground", 34 GND (power) "Ground", 35 AVDD (power) "Analog power supply", 36 GND (power) "Ground", 37 AVDD (power) "Analog power supply", 38 GND (power) "Ground", 39 AVDD (power) "Analog power supply", 40 GND (power) "Ground", 51 DVDD (power) "Output driver power supply", 52 GND (power) "Ground", 65 GND (power) "Ground", 66 DVDD (power) "Output driver power supply", 81 EP (power)